# EAGLE library part A000053 (library A000053)
Arduino Micro Arduino Micro Source: Datasheet <http://uk.rs-online.com/web/p/products/7717667>
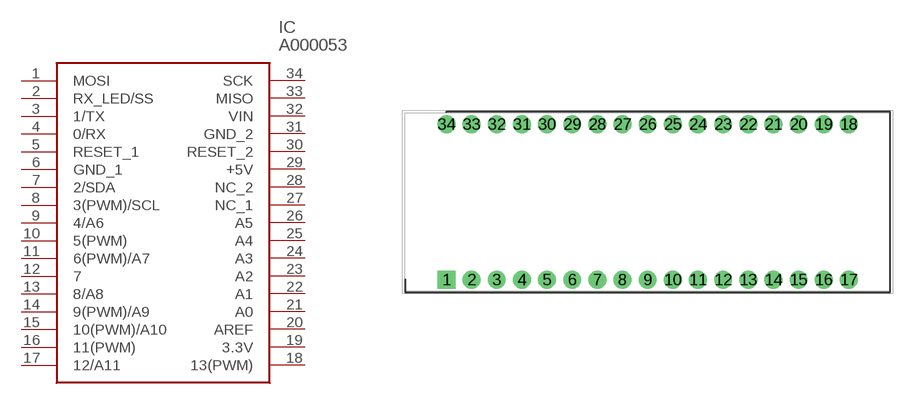
[diagram p0: symbol with the pads of HDRV34W70P1570X254_2X17_4900X1; footprint HDRV34W70P1570X254_2X17_4900X1]

Designator prefix IC

## A000053 (Description: Arduino Micro Arduino Micro; Height: 16mm; Manufacturer_Name: Arduino; Manufacturer_Part_Number: A000053; Mouser_Part_Number: 782-A000053; Mouser_Price-Stock: https://www.mouser.com/Search/Refine.aspx?Keyword=782-A000053; RS_Part_Number: 7717667; RS_Price-Stock: http://uk.rs-online.com/web/p/products/7717667)  [HDRV34W70P1570X254_2X17_4900X1]
1  MOSI
2  RX_LED/SS
3  1/TX
4  0/RX
5  RESET_1
6  GND_1  pwr
7  2/SDA
8  3(PWM)/SCL
9  4/A6
10  5(PWM)
11  6(PWM)/A7
12  7
13  8/A8
14  9(PWM)/A9
15  10(PWM)/A10
16  11(PWM)
17  12/A11
18  13(PWM)
19  3.3V
20  AREF
21  A0
22  A1
23  A2
24  A3
25  A4
26  A5
27  NC_1
28  NC_2
29  +5V
30  RESET_2
31  GND_2
32  VIN
33  MISO
34  SCK

## Footprint HDRV34W70P1570X254_2X17_4900X1 (pad centres in mm)
DIP
drill 1.2 pad 1.8 square: 1 0,0
drill 1.2 pad 1.8: 2 2.54,0; 3 5.08,0; 4 7.62,0; 5 10.16,0; 6 12.7,0; 7 15.24,0; 8 17.78,0; 9 20.32,0; 10 22.86,0; 11 25.4,0; 12 27.94,0; 13 30.48,0; 14 33.02,0; 15 35.56,0; 16 38.1,0; 17 40.64,0; 18 40.64,15.7; 19 38.1,15.7; 20 35.56,15.7; 21 33.02,15.7; 22 30.48,15.7; 23 27.94,15.7; 24 25.4,15.7; 25 22.86,15.7; 26 20.32,15.7; 27 17.78,15.7; 28 15.24,15.7; 29 12.7,15.7; 30 10.16,15.7; 31 7.62,15.7; 32 5.08,15.7; 33 2.54,15.7; 34 0,15.7